# EAGLE library part STW5093 (library new-pca9306)
STW5093 - PCM Audio Codec
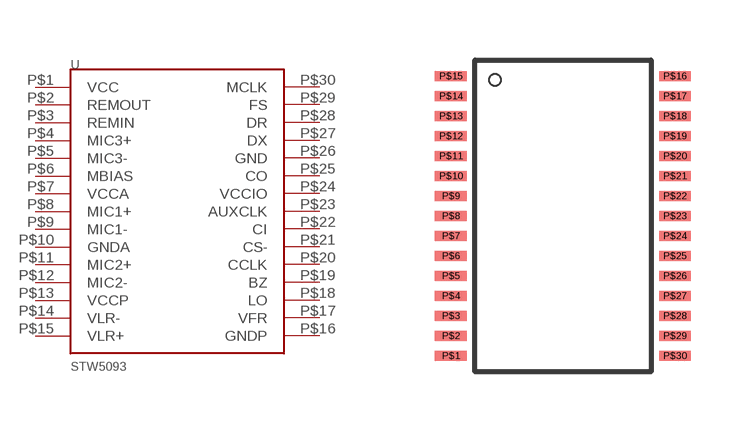
[diagram p65: symbol with the pads of TSSOP30; footprint TSSOP30]

Designator prefix -

## STW5093  [TSSOP30]
P$1  VCC
P$2  REMOUT
P$3  REMIN
P$4  MIC3+
P$5  MIC3-
P$6  MBIAS
P$7  VCCA
P$8  MIC1+
P$9  MIC1-
P$10  GNDA
P$11  MIC2+
P$12  MIC2-
P$13  VCCP
P$14  VLR-
P$15  VLR+
P$16  GNDP
P$17  VFR
P$18  LO
P$19  BZ
P$20  CCLK
P$21  CS-
P$22  CI
P$23  AUXCLK
P$24  VCCIO
P$25  CO
P$26  GND
P$27  DX
P$28  DR
P$29  FS
P$30  MCLK

## Footprint TSSOP30 (pad centres in mm)
smd 0.8 x 0.25: P$1 -2.8,-3.5; P$2 -2.8,-3; P$3 -2.8,-2.5; P$4 -2.8,-2; P$5 -2.8,-1.5; P$6 -2.8,-1; P$7 -2.8,-0.5; P$8 -2.8,0; P$9 -2.8,0.5; P$10 -2.8,1; P$11 -2.8,1.5; P$12 -2.8,2; P$13 -2.8,2.5; P$14 -2.8,3; P$15 -2.8,3.5; P$16 2.8,3.5; P$17 2.8,3; P$18 2.8,2.5; P$19 2.8,2; P$20 2.8,1.5; P$21 2.8,1; P$22 2.8,0.5; P$23 2.8,0; P$24 2.8,-0.5; P$25 2.8,-1; P$26 2.8,-1.5; P$27 2.8,-2; P$28 2.8,-2.5; P$29 2.8,-3; P$30 2.8,-3.5